# Altium schematic symbol library TPS2051CDBVR.SchLib: 1 symbol
Pins are listed as number, name and electrical type; pins without a type are passive.

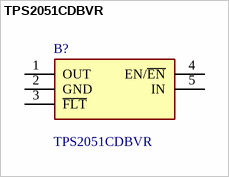
[diagram p0: symbol TPS2051CDBVR]

## TPS2051CDBVR
designator B?
Single Channel, Current-Limited USB Power Distribution Switch; Manufacturer_Name: Texas Instruments; Geometry.Height: 1.45mm; Mouser Part Number: 595-TPS2051CDBVR; Mouser Price/Stock: https://www.mouser.co.uk/ProductDetail/Texas-Instruments/TPS2051CDBVR?qs=PF3AD18CSE5vi2HeWLJCmw%3D%3D; Manufacturer_Part_Number: TPS2051CDBVR; Datasheet Link: http://www.ti.com/lit/gpn/tps2051c
footprint SOT95P280X145-5N
pins: 1 OUT, 2 GND, 3 ~{FLT}, 4 EN/~{EN}, 5 IN